# EAGLE library part ATLAS (library waterduck)
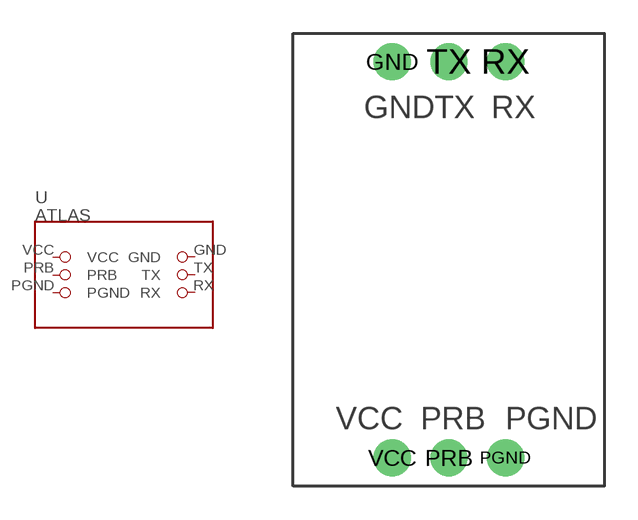
[diagram p1: symbol with the pads of ATLAS; footprint ATLAS]

Designator prefix U

## ATLAS-PH  [ATLAS]
GND  GND  pas
PGND  PGND  pas
PRB  PRB  pas
RX  RX  pas
TX  TX  pas
VCC  VCC  pas

## ATLAS-DO  [ATLAS]
Pads as for ATLAS

## Footprint ATLAS (pad centres in mm)
drill 1 pad 1.676: GND -2.54,19.05; PGND 2.54,1.27; PRB 0,1.27; RX 2.54,19.05; TX 0,19.05; VCC -2.54,1.27